# Altium schematic symbol library CAT25128.Schlib: 1 symbol
Pins are listed as number, name and electrical type; pins without a type are passive.

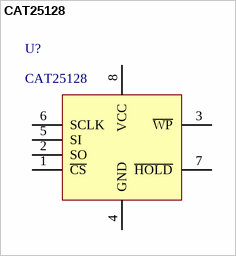
[diagram p0: symbol CAT25128]

## CAT25128
designator U?
128-Kb SPI Serial CMOS  EEPRO
pins: 1 ~{CS}, 2 SO, 3 ~{WP}, 4 GND, 5 SI, 6 SCLK, 7 ~{HOLD}, 8 VCC